# Altium schematic symbol library Crys_Epson_FA-20H_16_0000MF12V-AJ3_eec.SchLib: 1 symbol
Pins are listed as number, name and electrical type; pins without a type are passive.

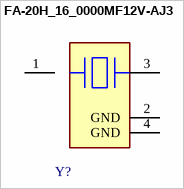
[diagram p0: symbol FA-20H_16_0000MF12V-AJ3]

## FA-20H_16_0000MF12V-AJ3
designator Y?  (value not drawn)
pins: 1, 2 GND (power), 3, 4 GND (power)